# Altium schematic symbol library 元件库设计.SchLib: 2 symbols
Pins are listed as number, name and electrical type; pins without a type are passive.

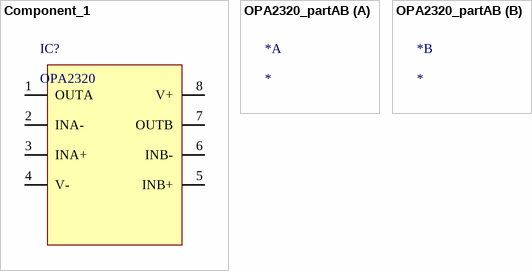
[diagram p0: symbols Component_1 to OPA2320_partAB]

## Component_1
designator IC?, comment OPA2320
双通道单电源运放; MPN: 物料编码; Vendor: 供应商
pins: 1 OUTA, 2 INA-, 3 INA+, 4 V-, 5 INB+, 6 INB-, 7 OUTB, 8 V+

## OPA2320_partAB
designator *